# EAGLE library part RELAIS-FINDER-60-13-8 (library 1A-meinLib)
Industrierelais, 10A, 3 Wechsler, Typ 60.13.8, FINDER
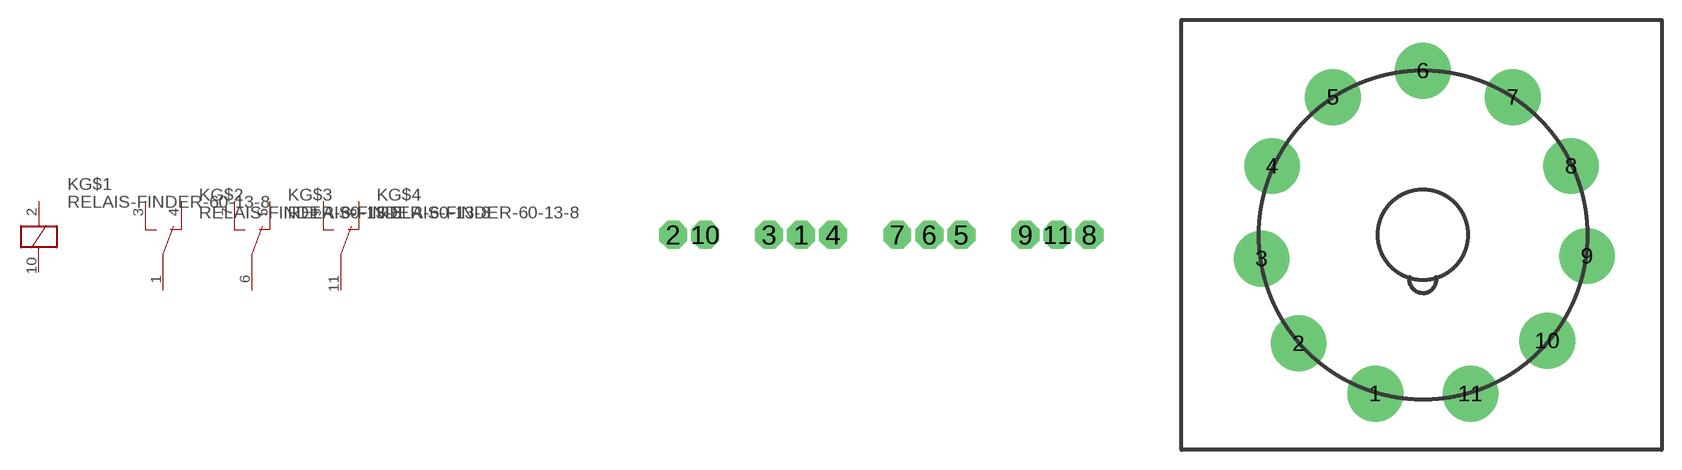
[diagram p96: symbol with the pads of RELAIS-3XUMSCHALTER; footprints RELAIS-3XUMSCHALTER, FINDER-60.13]

Designator prefix K; gates G$1=RELAIS-SPULE G$2=RELAIS-UMSCHALTER G$3=RELAIS-UMSCHALTER G$4=RELAIS-UMSCHALTER

## RELAIS-FINDER-60-13-8  [RELAIS-3XUMSCHALTER]
1  G$2:COM
2  G$1:A1  pas
3  G$2:NO
4  G$2:NC
5  G$3:NC
6  G$3:COM
7  G$3:NO
8  G$4:NC
9  G$4:NO
10  G$1:A2  pas
11  G$4:COM

## RELAIS-FINDER-60-13-860.13  [FINDER-60.13]
Pads as for RELAIS-3XUMSCHALTER

## Footprint RELAIS-3XUMSCHALTER (pad centres in mm)
drill 0.6 octagon: 1 3.81,0; 2 -1.27,0; 3 2.54,0; 4 5.08,0; 5 10.16,0; 6 8.89,0; 7 7.62,0; 8 15.24,0; 9 12.7,0; 10 0,0; 11 13.97,0

## Footprint FINDER-60.13 (pad centres in mm)
Industrie-Relais, 3 Wechsler, 10A, Finder
drill 3.2 round: 1 -3.6,-12; 2 -9.4,-8.2; 3 -12.2,-1.8; 4 -11.4,5.2; 5 -6.8,10.4; 6 0,12.4; 7 6.8,10.4; 8 11.2,5.2; 9 12.4,-1.6; 10 9.4,-8; 11 3.6,-12